# Altium schematic symbol library PCBLaserControlBoardV1.0.SCHLIB: 49 symbols
Pins are listed as number, name and electrical type; pins without a type are passive.

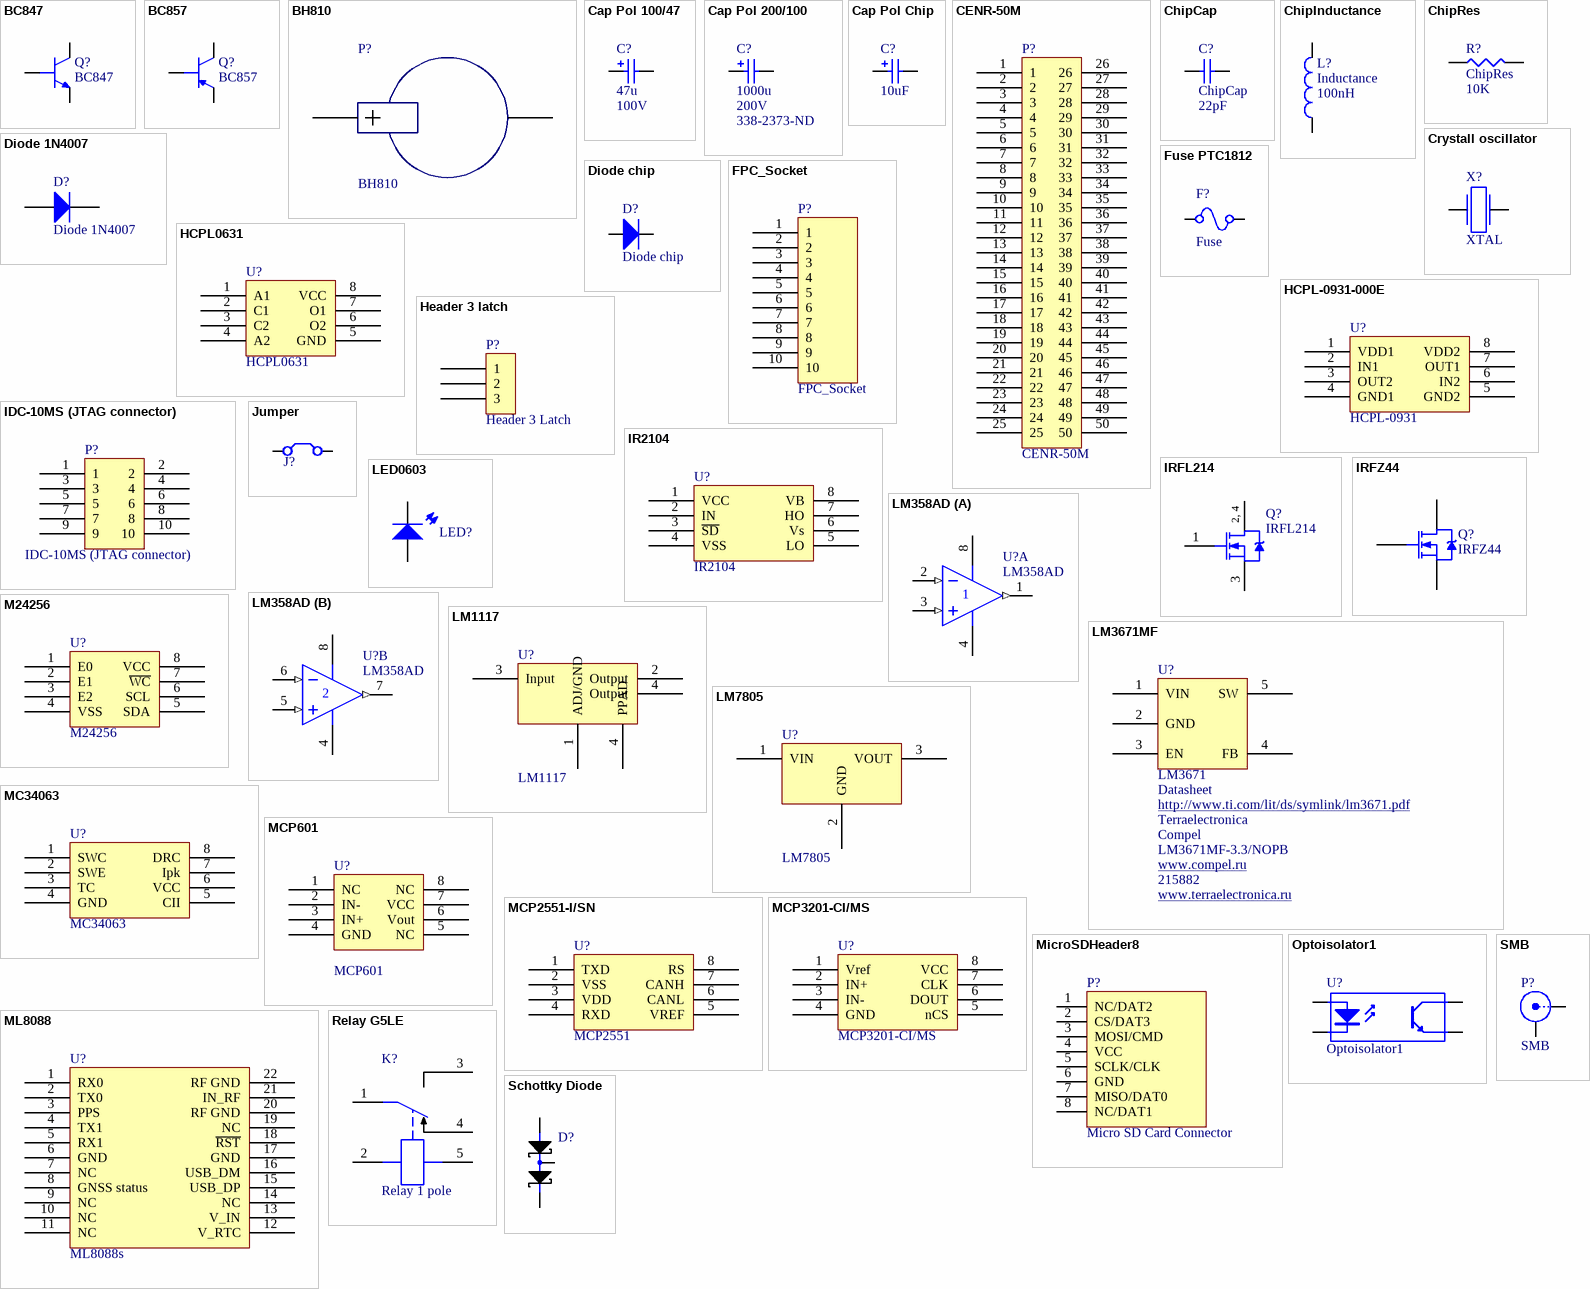
[diagram p0: symbols BC847 to SMB]

## BC847
designator Q?
NPN transistor
footprint SOT23
pins: 1, 2, 3

## BC857
designator Q?
PNP Transistor
footprint SOT23
pins: 1, 2, 3

## BH810
designator P?
footprint BH810 (Battery Holder)
pins: 1 BN, 2 BP

## Cap Pol 100/47
designator C?  value 47u  Voltage: 100V  (hidden comment: Cap Pol 100/47)
Polarized Capacitor (Radial); Supplier 1: Digi-Key; Supplier Part Number 1: P1284-ND
footprint CAPPR5-10x17_1 (Capacitor, Electrolytic, Radial; Body 10 x 17 mm (Dia.xH typ); Pin Spacing 5 mm (typ))
pins: 1, 2
1 alternate drawing of the same symbol

## Cap Pol 200/100
designator C?  value 1000u  Voltage: 200V  Supplier Part Number 1: 338-2373-ND  (hidden comment: Cap Pol 200/100)
Polarized Capacitor (Radial); Supplier 1: Digi-Key
footprint CAPPR7.5-16x25_1 (Capacitor, Electrolytic, Radial; Body 16 x 25 mm (Dia.xH typ); Pin Spacing 7.5 mm (typ))
pins: 1, 2
1 alternate drawing of the same symbol

## Cap Pol Chip
designator C?, comment value 10uF  (hidden comment: Cap Pol SMD)
Polarized Capacitor (Radial); Supplier 1: Digi-Key; Supplier Part Number 1: 399-4029-1-ND
footprint CAPC7343 (Chip Capacitor, Body 7.3x4.3mm, IPC Medium Density)
pins: 1, 2
1 alternate drawing of the same symbol

## CENR-50M
designator P?
footprint CENR-50M (Centronic 50pin, PCB mount, right angle)
pins: 1, 2, 3, 4, 5, 6, 7, 8, 9, 10, 11, 12, 13, 14, 15, 16, 17, 18, 19, 20, 21, 22, 23, 24, 25, 26, 27, 28, 29, 30, 31, 32, 33, 34, 35, 36, 37, 38, 39, 40, 41, 42, 43, 44, 45, 46, 47, 48, 49, 50

## ChipCap
designator C?  value 22pF
Capacitor; Published: 8-Jun-2000; LatestRevisionDate: 17-Jul-2002; LatestRevisionNote: Re-released for DXP Platform.; PackageReference: RAD-0.3; Publisher: Altium Limited
footprint CAP0201 (Chip Capacitor, 2-Leads, Body 0.65x0.30mm, IPC Medium Density)
footprint CAP0402
footprint CAP0603
footprint CAP0805
footprint CAP1206
footprint CAP1210
footprint CAP1812
footprint CAP1825
footprint CAP1825
footprint CAP2220
pins: 1, 2

## ChipInductance
designator L?, comment Inductance  value 100nH
footprint Inductor
footprint CM10
footprint CM16
footprint CM20
footprint CM25
footprint CM32
footprint CM45
pins: 1, 2

## ChipRes
designator R?  value 10K
Chip resistor
footprint RES0805
footprint RES0603
pins: 1, 2

## Crystall oscillator
designator X?, comment XTAL
Quartz crystall oscillator
footprint BCY-W2/E4.7 (Quartz Crystal, Thru-Hole; 2 Leads; Body 11.35 x 4.65 x 13.46 mm (LxWxH max))
pins: 1, 2

## Diode 1N4007
designator D?
1 Amp General Purpose Rectifier; Published: 8-Jun-2000; LatestRevisionDate: 17-Jul-2002; LatestRevisionNote: Re-released for DXP Platform.; DatasheetVersion: 1998; PackageVersion: Aug-1999; PackageReference: DO-41; Publisher: Altium Limited; PackageDescription: Diode, Axial; Body 5.2 x 2.7 mm (LxDia. max), Lead Dia. 0.86 mm (max); Code_JEDEC: DO-204-AL; ComponentLink1Description: Manufacturer Link; ComponentLink1URL: http://www.fairchildsemi.com/; ComponentLink2Description: Datasheet; ComponentLink2URL: http://www.fairchildsemi.com/ds/1N%2F1N4001.pdf
footprint DO-41 (Diode, Axial; Body 5.2 x 2.7 mm (LxDia. max), Lead Dia. 0.86 mm (max))
simulation model 1N4007 (DIODE)
signal-integrity model 1N4007
pins: 1 A, 2 K

## Diode chip
designator D?
Voltage: 1000V; Current (continuous): 3A; Current (peak, sine 8,3 ms): 150V; Junction capacitance: 50pF
footprint SMB1 (SMBJ)
pins: 1 A, 2 K

## FPC_Socket
designator P?
footprint CONNFFCFPC10PIN0_5 (CONN FFC FPC 10POS 0.50MM R/A)
footprint Molex FPC/FFC 10pin (Molex FPC/FFC 10pin Non-ZIF Connector 10pin)
footprint MOLEX Header 8 2mm Pitch
pins: 1, 2, 3, 4, 5, 6, 7, 8, 9, 10

## Fuse PTC1812
designator F?, comment Fuse
Fuse PTC 1812 Thermoresistor
footprint PTC1812 (Fuse PTC Thermoresistor)
pins: 1, 2

## HCPL0631
designator U?
2-channel opto-coupler
footprint SOIC8
pins: 1 A1, 2 C1, 3 C2, 4 A2, 5 GND, 6 O2, 7 O1, 8 VCC

## HCPL-0931-000E
designator U?, comment HCPL-0931
2-bit bi-direction optoisolated buffer
footprint SOIC8 (SOIC, 8-Leads, Body 4,90x3,90mm, Pitch 1,27mm, IPC Medium Density)
pins: 1 VDD1, 2 IN1, 3 OUT2, 4 GND1, 5 GND2, 6 IN2, 7 OUT1, 8 VDD2

## Header 3 latch
designator P?, comment Header 3 Latch
Header 3 with latch
footprint Header 3 latch
pins: 1, 2, 3

## IDC-10MS (JTAG connector)
designator P?
footprint IDC-10MS(MR)
pins: 1, 2, 3, 4, 5, 6, 7, 8, 9, 10

## IR2104
designator U?
IR MOSFET Driver
footprint SOIC8 (SOIC, 8-Leads, Body 4,90x3,90mm, Pitch 1,27mm, IPC Medium Density)
pins: 1 VCC, 2 IN, 3 ~{SD}, 4 VSS, 5 LO, 6 Vs, 7 HO, 8 VB

## IRFL214
designator Q?
HEXFET Power MOSFET; Note: Pin 2 is electrically connected to pin 4.; Published: 8-Jun-2000; LatestRevisionDate: 20-Nov-2009; LatestRevisionNote: IPC-7351 Footprint Added.; DatasheetVersion: PD-9.862; PackageReference: SOT-223; Publisher: Altium Limited; PackageDescription: 4-Pin SOT-223 Package 2.3 mm Pitch, 7 mm Lead Span; Code_JEDEC: TO-261-AA; Code_IPC: SOT223-4; ComponentLink1Description: Manufacturer Link; ComponentLink1URL: http://www.irf.com/; ComponentLink2Description: Datasheet; ComponentLink2URL: http://www.irf.com/product-info/datasheets/data/irfl214.pdf
footprint SOT-223_N (SOT223, 4-Leads, Body 6.5x3.5mm, Pitch 2.3mm, Lead Span 7mm, IPC Medium Density)
footprint SOT-223_L (SOT223, 4-Leads, Body 6.5x3.5mm, Pitch 2.3mm, Lead Span 7mm, IPC High Density)
footprint SOT-223_M (SOT223, 4-Leads, Body 6.5x3.5mm, Pitch 2.3mm, Lead Span 7mm, IPC Low Density)
simulation model IRFL214 (SUBCKT)
pins: 1 G, 2 D, 3 S, 4 D
text: 2, 4

## IRFZ44
designator Q?
HEXFET N-Channel Power MOSFET; Note: Pin 2 is electrically connected to pin 4.; Published: 8-Jun-2000; LatestRevisionDate: 17-Jul-2002; LatestRevisionNote: Re-released for DXP Platform.; DatasheetVersion: PD-9.510C; PackageVersion: Feb-1997; PackageReference: TO-220AB; Publisher: Altium Limited; PackageDescription: TO, Thru-Hole, Vertical, Heatsink Mounted; 3 In-Line Leads; Pitch 2.54 mm; ComponentLink1Description: Manufacturer Link; ComponentLink1URL: http://www.irf.com/; ComponentLink2Description: Datasheet; ComponentLink2URL: http://www.irf.com/product-info/datasheets/data/irfz44.pdf
simulation model IRFZ44 (SUBCKT)
footprint TO-263AB
pins: 1 G, 2 D, 3 S

## Jumper
designator J?  (value not drawn)  (net tie, no BOM)
footprint J0805
pins: 0, 1

## LED0603
designator LED?, comment LED 0603  (value not drawn)
footprint LED 0603
footprint PLCC-2
pins: 1, 2

## LM358AD
designator U?
Dual Operational Amplifier; Published: 15-Apr-2002; LatestRevisionDate: 13-Apr-2006; LatestRevisionNote: IPC-7351 Footprint Added.; DatasheetVersion: Aug-1988; PackageVersion: Jan-1998; PackageReference: D008; Publisher: Altium Limited; PackageDescription: 8-Pin Small Outline Integrated Circuit 1.27 mm Pitch; Code_IPC: SOIC127P600-8; ComponentLink1Description: Manufacturer Link; ComponentLink1URL: http://www.ti.com/; ComponentLink2Description: Datasheet; ComponentLink2URL: http://www-s.ti.com/sc/ds/lm358.pdf
footprint D008_L (SOIC, 8-Leads, Body 4.9x3.9mm, Pitch 1.27mm, IPC High Density)
footprint D008_M (SOIC, 8-Leads, Body 4.9x3.9mm, Pitch 1.27mm, IPC Low Density)
footprint D008_M (SOIC, 8-Leads, Body 4.9x3.9mm, Pitch 1.27mm, IPC Low Density)
3D model D008 (8-Pin Small Outline Integrated Circuit 1.27 mm Pitch)
pins on every part: 4 V- (power), 8 V+ (power)
part A pins: 1 OUT (out), 2 IN- (in), 3 IN+ (in)
part B pins: 5 IN+ (in), 6 IN- (in), 7 OUT (out)

## LM1117
designator U?
Power Mgt Voltage Regulator
footprint SOT223-4M (SOT223, 4-Leads, Body 6.5x3.5mm, Pitch 2.3mm, Lead Span 7mm, IPC Low Density)
footprint SOT223-4N (SOT223, 4-Leads, Body 6.5x3.5mm, Pitch 2.3mm, Lead Span 7mm, IPC Medium Density)
footprint SOT223-4L (SOT223, 4-Leads, Body 6.5x3.5mm, Pitch 2.3mm, Lead Span 7mm, IPC High Density)
pins: 1 ADJ/GND (power), 2 Output (power), 3 Input (power), 4 PPAD, 4 Output (power)

## LM3671MF
designator U?, comment LM3671  ComponentLink1Description: Datasheet  Supplier 1: Terraelectronica  Supplier 2: Compel  Supplier Part Number 2: LM3671MF-3.3/NOPB  Supplier Part Number 1: 215882
600-mA Step-Down DC-DC Converter; ComponentLink1URL: http://www.ti.com/lit/ds/symlink/lm3671.pdf; Supplier URL 2: www.compel.ru; Supplier URL 1: www.terraelectronica.ru
footprint SOT23-5 (SOT23, 5-Leads, Body 2.90x2.45mm, Pitch 0.95mm, IPC Medium Density)
pins: 1 VIN, 2 GND, 3 EN, 4 FB, 5 SW

## LM7805
designator U?
Linear voltage regulator 1A
footprint TO-220 (TO-220 Vertical Mount)
pins: 1 VIN, 2 GND, 3 VOUT

## M24256
designator U?
256 Kbit I2C EEPROM
footprint SOIC8 (SOIC, 8-Leads, Body 4,90x3,90mm, Pitch 1,27mm, IPC Medium Density)
pins: 1 E0, 2 E1, 3 E2, 4 VSS, 5 SDA, 6 SCL, 7 ~{WC}, 8 VCC

## MC34063
designator U?
DC/DC converter control circuit; ComponentLink1Description: Datasheet; ComponentLink1URL: https://www.terraelectronica.ru/show_pdf.php?pdf=%2Fds%2Fpdf%2Fm%2Fmc34063acd-tr.pdf; HelpURL: MC34063; Supplier 1: Terraelectronica; Supplier Part Number 1: 356799; Supplier 2: Elgrad; Supplier Part Number 2: 30445; Supplier 3: Compel; Supplier Part Number 3: MC34063AG- S08-T(R)
footprint SOP8 (SOP, 8-Leads, Body 4.90x3.90mm, Pitch 1.27mm, IPC Medium Density)
pins: 1 SWC, 2 SWE, 3 TC, 4 GND, 5 CII, 6 VCC, 7 Ipk, 8 DRC

## MCP601
designator U?
Operational Amplifier
footprint SOIC8
pins: 1 NC, 2 IN-, 3 IN+, 4 GND, 5 NC, 6 Vout, 7 VCC, 8 NC

## MCP2551-I/SN
designator U?, comment MCP2551
CAN Transceiver
footprint SOIC8 (SOIC, 8-Leads, Body 4,90x3,90mm, Pitch 1,27mm, IPC Medium Density)
pins: 1 TXD, 2 VSS, 3 VDD, 4 RXD, 5 VREF, 6 CANL, 7 CANH, 8 RS

## MCP3201-CI/MS
designator U?
SAR 12-bit Analog-to-Digital  (A/D); Manufacturer: Microchip; Maximum Sampling Rate: 100 ksps; Supplier 1: Platan; Supplier 2: Terraelectronica; ComponentLink1Description: Datasheet; ComponentLink1URL: http://www.farnell.com/datasheets/1669366.pdf; Supplier Part Number 1: 200659200; Supplier Part Number 2: 181061
footprint MSOP8 (Surface mounted, 8 pin package)
pins: 1 Vref, 2 IN+, 3 IN-, 4 GND, 5 nCS, 6 DOUT, 7 CLK, 8 VCC (power)

## MicroSDHeader8
designator P?, comment Micro SD Card Connector
footprint WR-CRD SD Micro (WR-CRD SD Micro Header 8)
pins: 1 NC/DAT2, 2 CS/DAT3, 3 MOSI/CMD, 4 VCC, 5 SCLK/CLK, 6 GND, 7 MISO/DAT0, 8 NC/DAT1

## ML8088
designator U?, comment ML8088s
GPS Receiver
footprint ML8088s (GPS, GLONASS, GALILEO Receiver)
pins: 1 RX0, 2 TX0, 3 PPS, 4 TX1, 5 RX1, 6 GND, 7 NC, 8 GNSS status, 9 NC, 10 NC, 11 NC, 12 V_RTC, 13 V_IN, 14 NC, 15 USB_DP, 16 USB_DM, 17 GND, 18 ~{RST}, 19 NC, 20 RF GND, 21 IN_RF, 22 RF GND

## Optoisolator1
designator U?
4-Pin Phototransistor Optocoupler; Published: 24-Mar-1999; LatestRevisionDate: 04-Mar-2005; LatestRevisionNote: Sch pins 3 & 4 Swapped.; DatasheetVersion: Nov-2003; PackageReference: DIP-4; Publisher: Altium Limited
footprint DIP-4 (DIP; 4 Leads; Row Spacing 7.62 mm; Pitch 2.54 mm)
pins: 1 A "Anode", 2 K "Cathode", 3 E "Emitter", 4 C "Collector"

## Relay G5LE
designator K?, comment Relay 1 pole
Relay G5LE 10A Single Pole
footprint G5LA (Cubic, Single-pole 10A Power Relay)
pins: 1, 2, 3, 4, 5

## Schottky Diode
designator D?, comment Diode Schottky  (value not drawn)
2-Diode Schottky
footprint SOT23
pins: 1, 2, 3

## SMB
designator P?
SMB Straight Connector; LatestRevisionDate: 17-Jul-2002; LatestRevisionNote: Re-released for DXP Platform.; Publisher: Altium Limited
footprint SMB_V-RJ45 (Connector; SMB Straight)
signal-integrity model Connector
pins: 1 X, 2 Y

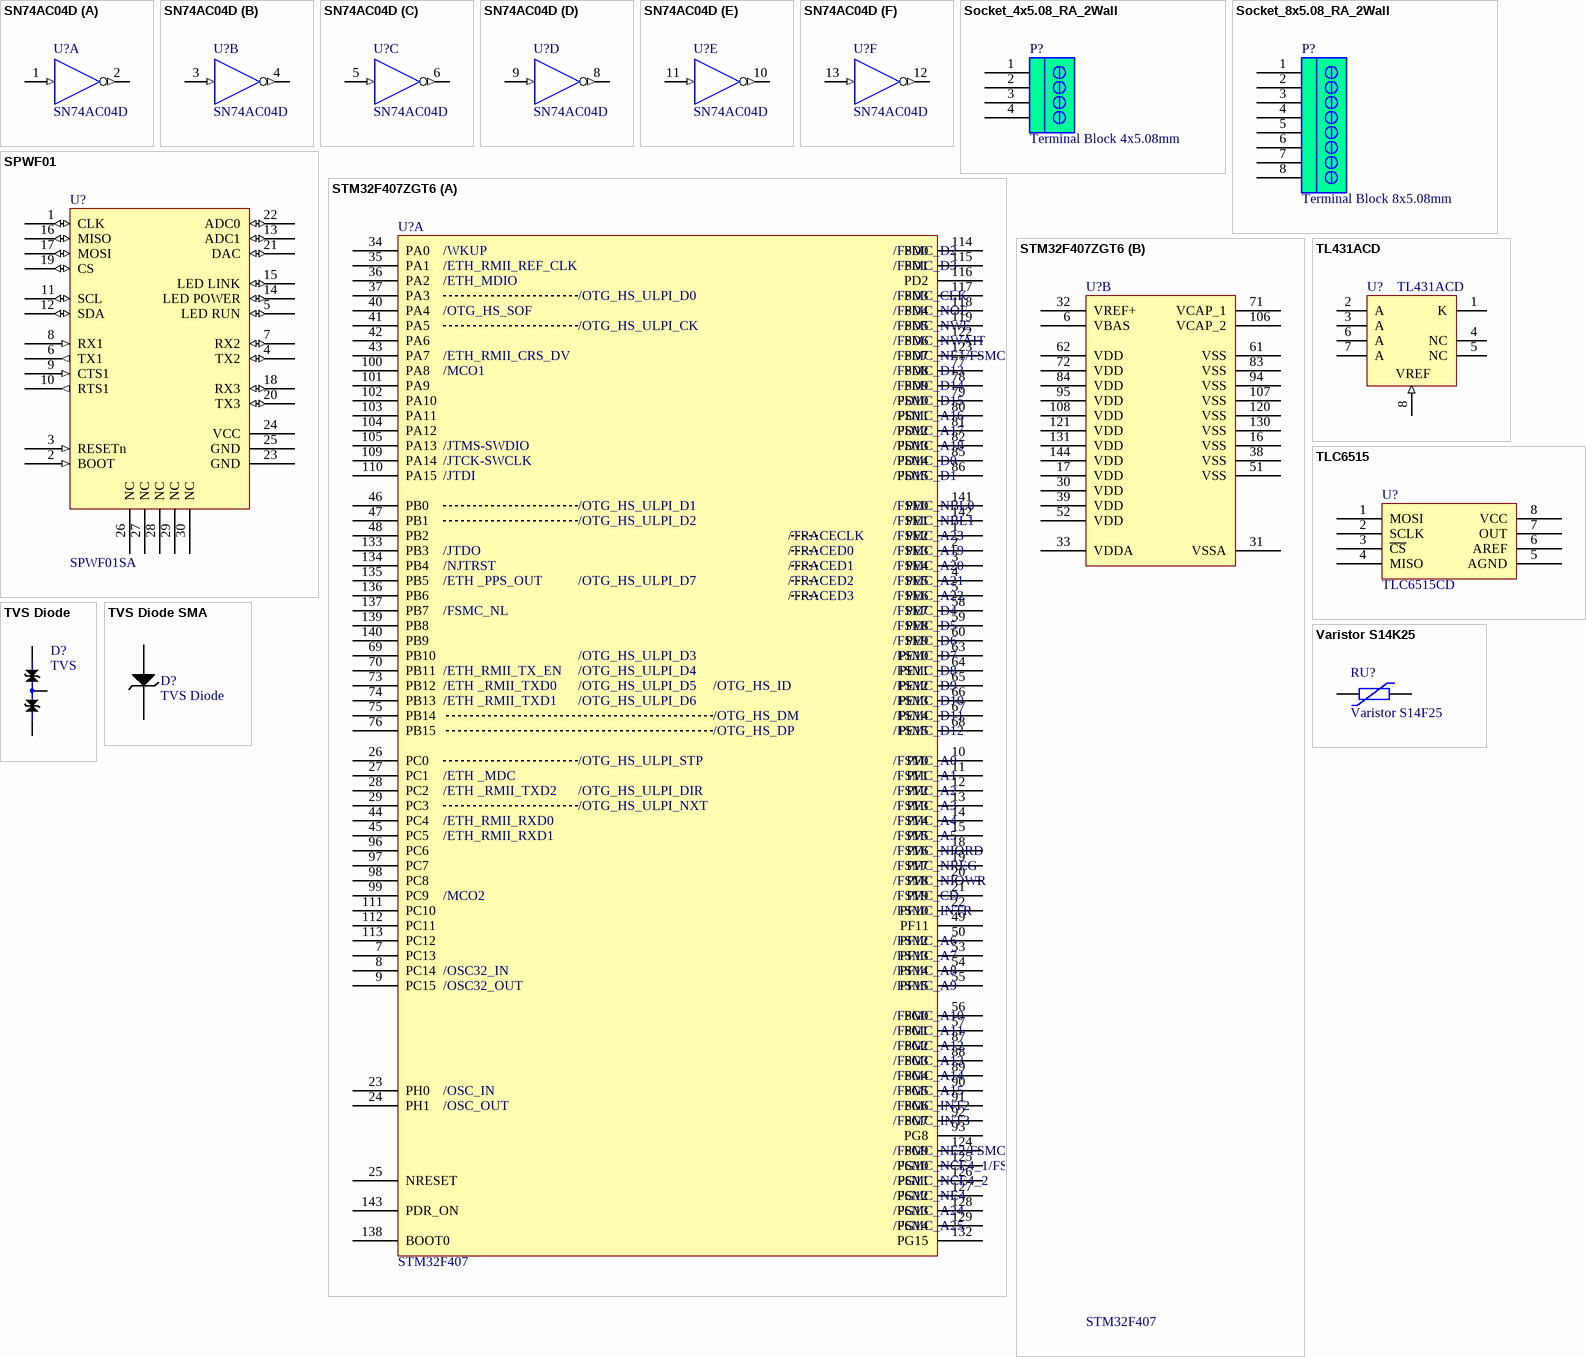
[diagram p1: symbols SN74AC04D to Varistor S14K25]

## SN74AC04D
designator U?
Hex Inverter; Published: 8-Jun-2000; LatestRevisionDate: 13-Apr-2006; LatestRevisionNote: IPC-7351 Footprint Added.; DatasheetVersion: Sep-1996; PackageVersion: Jan-1998; PackageReference: D014; Publisher: Altium Limited; PackageDescription: 14-Pin Small Outline Integrated Circuit 1.27 mm Pitch; Code_IPC: SOIC127P600-14; ComponentLink1Description: Manufacturer Link; ComponentLink1URL: http://www.ti.com/; ComponentLink2Description: Datasheet; ComponentLink2URL: http://www-s.ti.com/sc/ds/sn74ac04.pdf; ComponentLink3Description: Packaging Specification; ComponentLink3URL: http://focus.ti.com/lit/ml/mpds177/mpds177.pdf
footprint D014_N (SOIC, 14-Leads, Body 8.7x3.9mm, Pitch 1.27mm, IPC Medium Density)
footprint D014_L (SOIC, 14-Leads, Body 8.7x3.9mm, Pitch 1.27mm, IPC High Density)
footprint D014_M (SOIC, 14-Leads, Body 8.7x3.9mm, Pitch 1.27mm, IPC Low Density)
3D model D014 (14-Pin Small Outline Integrated Circuit 1.27 mm Pitch)
signal-integrity model SN74AC04D
pins on every part: 7 GND (power) hidden to GND, 14 VCC (power) hidden to VCC
part A pins: 1 A (in), 2 Y (out)
part B pins: 3 A (in), 4 Y (out)
part C pins: 5 A (in), 6 Y (out)
part D pins: 8 Y (out), 9 A (in)
part E pins: 10 Y (out), 11 A (in)
part F pins: 12 Y (out), 13 A (in)

## Socket_4x5.08_RA_2Wall
designator P?, comment Terminal Block 4x5.08mm
Terminal Block Socket Right Angle 4x5.08mm 2-Wall
footprint Socket 4x5.08
pins: 1, 2, 3, 4

## Socket_8x5.08_RA_2Wall
designator P?, comment Terminal Block 8x5.08mm
Terminal Block Socket Right Angle 8x5.08mm 2-Wall
footprint SOCKET 8x5.08
pins: 1, 2, 3, 4, 5, 6, 7, 8

## SPWF01
designator U?, comment SPWF01SA
Serial-to-Wi-Fi b/g/n intelligent module
footprint SPWF01SA (Serial-to-Wi-Fi b/g/n intelligent module)
footprint SPWF01SA (Serial-to-Wi-Fi b/g/n intelligent module)
pins: 1 CLK (io), 2 BOOT (in), 3 RESETn (in), 4 TX2 (io), 5 LED RUN (io), 6 TX1 (out), 7 RX2 (io), 8 RX1 (in), 9 CTS1 (in), 10 RTS1 (out), 11 SCL (io), 12 SDA (io), 13 ADC1 (io), 14 LED POWER (io), 15 LED LINK (io), 16 MISO (io), 17 MOSI (io), 18 RX3 (io), 19 CS (io), 20 TX3 (io), 21 DAC (io), 22 ADC0 (io), 23 GND, 24 VCC (power), 25 GND, 26 NC, 27 NC, 28 NC, 29 NC, 30 NC

## STM32F407ZGT6
designator U?, comment STM32F407
ST Microcontroller ARM 32-bit Cortex M4
footprint LQFP144 (TSQFP, 144-Leads, Body 20.00x20.00mm, Pitch 0.50mm, IPC Medium Density)
part A pins: 1 PE2, 2 PE3, 3 PE4, 4 PE5, 5 PE6, 7 PC13, 8 PC14, 9 PC15, 10 PF0, 11 PF1, 12 PF2, 13 PF3, 14 PF4, 15 PF5, 18 PF6, 19 PF7, 20 PF8, 21 PF9, 22 PF10, 23 PH0, 24 PH1, 25 NRESET, 26 PC0, 27 PC1, 28 PC2, 29 PC3, 34 PA0, 35 PA1, 36 PA2, 37 PA3, 40 PA4, 41 PA5, 42 PA6, 43 PA7, 44 PC4, 45 PC5, 46 PB0, 47 PB1, 48 PB2, 49 PF11, 50 PF12, 53 PF13, 54 PF14, 55 PF15, 56 PG0, 57 PG1, 58 PE7, 59 PE8, 60 PE9, 63 PE10, 64 PE11, 65 PE12, 66 PE13, 67 PE14, 68 PE15, 69 PB10, 70 PB11, 73 PB12, 74 PB13, 75 PB14, 76 PB15, 77 PD8, 78 PD9, 79 PD10, 80 PD11, 81 PD12, 82 PD13, 85 PD14, 86 PD15, 87 PG2, 88 PG3, 89 PG4, 90 PG5, 91 PG6, 92 PG7, 93 PG8, 96 PC6, 97 PC7, 98 PC8, 99 PC9, 100 PA8, 101 PA9, 102 PA10, 103 PA11, 104 PA12, 105 PA13, 109 PA14, 110 PA15, 111 PC10, 112 PC11, 113 PC12, 114 PD0, 115 PD1, 116 PD2, 117 PD3, 118 PD4, 119 PD5, 122 PD6, 123 PD7, 124 PG9, 125 PG10, 126 PG11, 127 PG12, 128 PG13, 129 PG14, 132 PG15, 133 PB3, 134 PB4, 135 PB5, 136 PB6, 137 PB7, 138 BOOT0, 139 PB8, 140 PB9, 141 PE0, 142 PE1, 143 PDR_ON
part B pins: 6 VBAS, 16 VSS, 17 VDD, 30 VDD, 31 VSSA, 32 VREF+, 33 VDDA, 38 VSS, 39 VDD, 51 VSS, 52 VDD, 61 VSS, 62 VDD, 71 VCAP_1, 72 VDD, 83 VSS, 84 VDD, 94 VSS, 95 VDD, 106 VCAP_2, 107 VSS, 108 VDD, 120 VSS, 121 VDD, 130 VSS, 131 VDD, 144 VDD
part A text: /WKUP; /FSMC_D2; /ETH_RMII_REF_CLK; /FSMC_D3; /ETH_MDIO; /OTG_HS_ULPI_D0; /FSMC_CLK; /OTG_HS_SOF; /FSMC_NOE; /OTG_HS_ULPI_CK; /FSMC_NWE; /FSMC_NWAIT; /ETH_RMII_CRS_DV; /FSMC_NE1/FSMC_NCE2; /MCO1; /FSMC_D13; /FSMC_D14; /FSMC_D15; /FSMC_A16; /FSMC_A17; /JTMS-SWDIO; /FSMC_A18; /JTCK-SWCLK; /FSMC_D0; /JTDI; /FSMC_D1; /OTG_HS_ULPI_D1; /FSMC_NBL0; /OTG_HS_ULPI_D2; /FSMC_NBL1; /TRACECLK; /FSMC_A23; /JTDO; /TRACED0; /FSMC_A19; /NJTRST; /TRACED1; /FSMC_A20; /ETH _PPS_OUT; /OTG_HS_ULPI_D7; /TRACED2; /FSMC_A21; /TRACED3; /FSMC_A22; /FSMC_NL; /FSMC_D4; /FSMC_D5; /FSMC_D6; /OTG_HS_ULPI_D3; /FSMC_D7; /ETH_RMII_TX_EN; /OTG_HS_ULPI_D4; /FSMC_D8; /ETH _RMII_TXD0; /OTG_HS_ULPI_D5; /OTG_HS_ID; /FSMC_D9; /ETH _RMII_TXD1; /OTG_HS_ULPI_D6; /FSMC_D10; /OTG_HS_DM; /FSMC_D11; /OTG_HS_DP; /FSMC_D12; /OTG_HS_ULPI_STP; /FSMC_A0; /ETH _MDC; /FSMC_A1; /ETH _RMII_TXD2; /OTG_HS_ULPI_DIR; /FSMC_A2; /OTG_HS_ULPI_NXT; /FSMC_A3; /ETH_RMII_RXD0; /FSMC_A4; /ETH_RMII_RXD1; /FSMC_A5; /FSMC_NIORD; /FSMC_NREG; /FSMC_NIOWR; /MCO2; /FSMC_CD; /FSMC_INTR; /FSMC_A6; /FSMC_A7; /OSC32_IN; /FSMC_A8; /OSC32_OUT; /FSMC_A9; /FSMC_A10; /FSMC_A11; /FSMC_A12; /FSMC_A13; /FSMC_A14; /OSC_IN; /FSMC_A15; /OSC_OUT; /FSMC_INT2; /FSMC_INT3; /FSMC_NE2/FSMC_NCE3; /FSMC_NCE4_1/FSMC_NE3; /FSMC_NCE4_2; /FSMC_NE4; /FSMC_A24; /FSMC_A25

## TL431ACD
designator U?
Adjustable Precision Shunt Regulator; Published: 15-Apr-2002; LatestRevisionDate: 13-Apr-2006; LatestRevisionNote: IPC-7351 Footprint Added.; DatasheetVersion: Oct-2000; PackageVersion: Jan-1998; PackageReference: D008; Publisher: Altium Limited; PackageDescription: 8-Pin Small Outline Integrated Circuit 1.27 mm Pitch; Code_IPC: SOIC127P600-8; ComponentLink1Description: Manufacturer Link; ComponentLink1URL: http://www.ti.com/; ComponentLink2Description: Datasheet; ComponentLink2URL: http://www-s.ti.com/sc/ds/tl431a.pdf
footprint D008_N (SOIC, 8-Leads, Body 4.9x3.9mm, Pitch 1.27mm, IPC Medium Density)
footprint D008_L (SOIC, 8-Leads, Body 4.9x3.9mm, Pitch 1.27mm, IPC High Density)
footprint D008_M (SOIC, 8-Leads, Body 4.9x3.9mm, Pitch 1.27mm, IPC Low Density)
3D model D008 (8-Pin Small Outline Integrated Circuit 1.27 mm Pitch)
simulation model TL431A4 (SUBCKT)
pins: 1 K (power), 2 A (power), 3 A (power), 4 NC, 5 NC, 6 A (power), 7 A (power), 8 VREF (in)

## TLC6515
designator U?, comment TLC6515CD
10-bit analog to digiyal converter; Manufacturer: Texas Instruments
footprint SOIC8 (SOIC, 8-Leads, Body 4,90x3,90mm, Pitch 1,27mm, IPC Medium Density)
pins: 1 MOSI, 2 SCLK, 3 ~{CS}, 4 MISO, 5 AGND, 6 AREF, 7 OUT, 8 VCC

## TVS Diode
designator D?, comment TVS
Dual bidirectional voltage supresor
footprint SOT23
pins: 1, 2, 3

## TVS Diode SMA
designator D?, comment TVS Diode
footprint DO-214AS
pins: 1, 2

## Varistor S14K25
designator RU?, comment Varistor S14F25
varistor
footprint S14K25 (Varistor)
pins: 1, 2